# Altium footprint library Supernova Inductors.PcbLib: 56 footprints (part 2 of 4)
Each footprint in its own frame and in the unit in brackets; x right, y up, seen from the top. Pads: shape width x height; smd on the part's side, far side on the other; paste and mask are expansions set on the pad; w line width, h text height; cw(c..) or ccw(c..) is an arc to the next point about the centre after c.
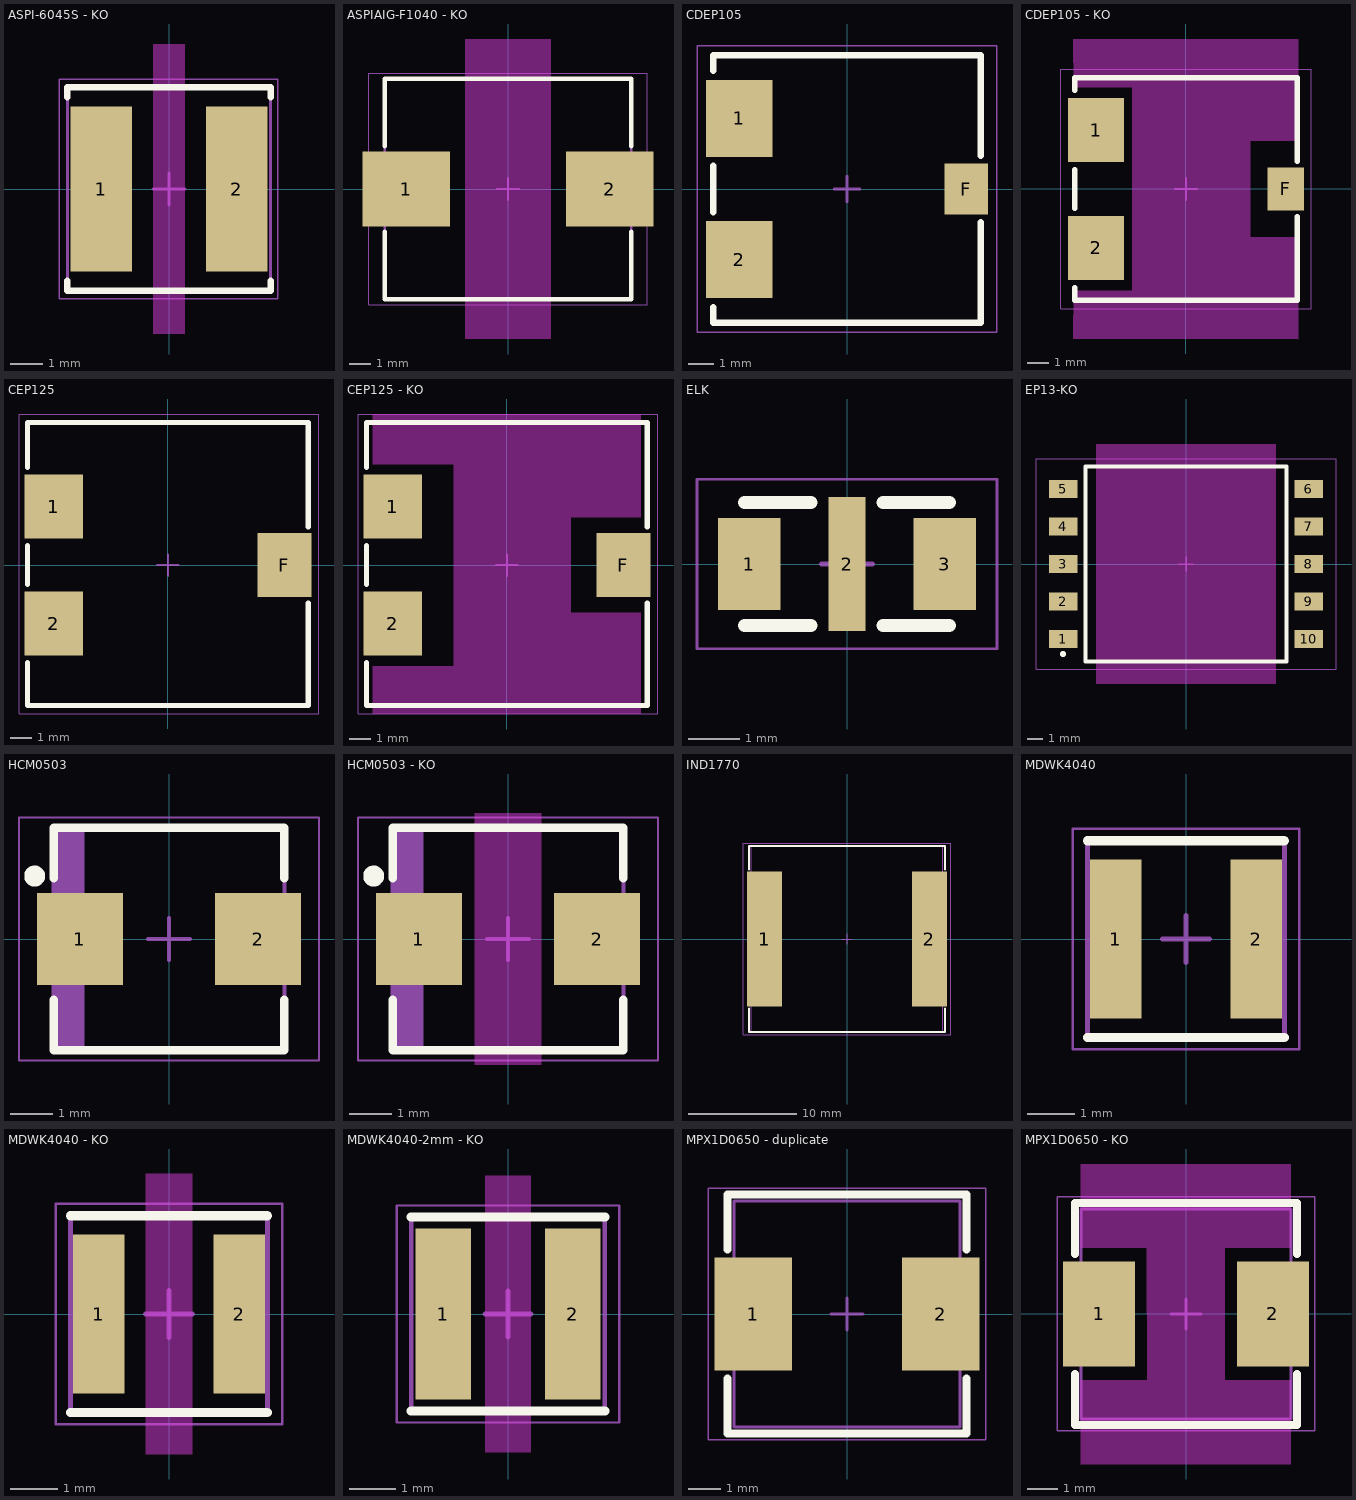
[diagram p1: the footprints below, top view; thin cyan lines are the x and y axes]

## ASPI-6045S - KO [mm] "Precision Wire Wound Inductor, 2-Leads, Body 6.00x6.00mm, IPC Medium Density"
height 4.5
pads (2):
  rect 1.9x5.1 smd paste-0.2: 1(-2.1,0) 2(2.1,0)
Top Overlay:
  lines w0.2: -3.15,-2.85 -3.15,-3.15 3.15,-3.15 3.15,-2.85 ; -3.15,2.85 -3.15,3.15 3.15,3.15 3.15,2.85
Keep-Out Layer:
  rectangle: -0.5,-4.5 0.5,4.5
Top 3D Body (Mech13):
  lines w0.1: -3.15,-3.15 -3.15,3.15 3.15,3.15 3.15,-3.15 -3.15,-3.15
Top Courtyard:
  lines w0.05: -3.4,-3.4 -3.4,3.4 3.375,3.4 3.375,-3.4 -3.4,-3.4
  lines w0.1: -0.5,0 0.5,0 ; 0,-0.5 0,0.5
3D body "vls6045af.step": height 4.49, standoff -0.01, extent -3,-3 3,3

## ASPIAIG-F1040 - KO [mm] "Molded Inductor, 2-Leads, Body 11.00x10.00mm, IPC Medium Density"
height 4
pads (2):
  rect 4.1x3.5 smd: 1(-4.75,0) 2(4.75,0)
Top Overlay:
  lines w0.2: -5.75,-2 -5.75,-5.15 5.75,-5.15 5.75,-2 ; -5.75,2 -5.75,5.15 5.75,5.15 5.75,2
Keep-Out Layer:
  rectangle: -2,-7 2,7
Top 3D Body (Mech13):
  lines w0.1: -5.75,-5.15 5.75,-5.15 5.75,5.15 -5.75,5.15 -5.75,-5.15
Top Courtyard:
  lines w0.05: -6.5,-5.4 6.5,-5.4 6.5,5.4 -6.5,5.4 -6.5,-5.4
  lines w0.1: -0.5,0 0.5,0 ; 0,-0.5 0,0.5
3D body: height 4, standoff 0, extent -5.75,-5.15 5.75,5.15

## CDEP105 [mm]
pads (3):
  rect 2.6x3 smd paste-0.2: 1(-4.2,2.75) 2(-4.2,-2.75)
  rect 1.7x2 smd paste-0.1: F(4.65,0)
Top Overlay:
  lines w0.254: -5.2,-4.6 -5.2,-5.2 5.2,-5.2 5.2,-1.3 ; -5.2,-0.9 -5.2,0.9 ; -5.2,4.6 -5.2,5.2 5.2,5.2 5.2,1.3
Top Courtyard:
  lines w0.05: -5.842,-5.588 -5.842,5.588 5.842,5.588 5.842,-5.588 -5.842,-5.588
  lines w0.1: -0.5,0 0.5,0 ; 0,-0.5 0,0.5
3D body: height 1.6, standoff 0, extent -5,1.5 -2.9,4.1
3D body: height 1.8, standoff 0, extent -5,-5 -2.9,-4.1
3D body: height 1.8, standoff 0, extent -5,4.1 -2.9,5
3D body: height 1.8, standoff 0, extent -2.9,-5 2.9,5
3D body: height 1.6, standoff 0, extent -5,-4.1 -2.9,-1.5
3D body: height 1.8, standoff 0, extent -5,-1.5 -2.9,1.5
3D body: height 1.6, standoff 0, extent 2.9,-0.7 5,0.7
3D body: height 1.8, standoff 0, extent 2.9,0.7 5,5
3D body: height 1.8, standoff 0, extent 2.9,-5 5,-0.7
3D body: height 5.6, standoff 4.2, extent -2.9,-5 4.5,5
3D body: height 4.2, standoff 1.8, extent -3.269,-3.892 4.5,3.892
3D body: height 4.2, standoff 0, extent -2.9,4.1 4.5,5
3D body: height 4.2, standoff 0, extent -2.9,-5 4.5,-4.1

## CDEP105 - KO [mm]
pads (3):
  rect 2.6x3 smd paste-0.2: 1(-4.2,2.75) 2(-4.2,-2.75)
  rect 1.7x2 smd paste-0.1: F(4.65,0)
Top Overlay:
  lines w0.254: -5.2,-4.6 -5.2,-5.2 5.2,-5.2 5.2,-1.3 ; -5.2,-0.9 -5.2,0.9 ; -5.2,4.6 -5.2,5.2 5.2,5.2 5.2,1.3
Keep-Out Layer:
  region: -5.25,7 -5.25,4.75 -2.5,4.75 -2.5,-4.75 -5.25,-4.75 -5.25,-7 5.25,-7 5.25,-2.25 3,-2.25 3,2.25 5.25,2.25 5.25,7
Top Courtyard:
  lines w0.05: -5.842,-5.588 -5.842,5.588 5.842,5.588 5.842,-5.588 -5.842,-5.588
  lines w0.1: -0.5,0 0.5,0 ; 0,-0.5 0,0.5
3D body: height 1.6, standoff 0, extent -5,1.5 -2.9,4.1
3D body: height 1.8, standoff 0, extent -5,-5 -2.9,-4.1
3D body: height 1.8, standoff 0, extent -5,4.1 -2.9,5
3D body: height 1.8, standoff 0, extent -2.9,-5 2.9,5
3D body: height 1.6, standoff 0, extent -5,-4.1 -2.9,-1.5
3D body: height 1.8, standoff 0, extent -5,-1.5 -2.9,1.5
3D body: height 1.6, standoff 0, extent 2.9,-0.7 5,0.7
3D body: height 1.8, standoff 0, extent 2.9,0.7 5,5
3D body: height 1.8, standoff 0, extent 2.9,-5 5,-0.7
3D body: height 5.6, standoff 4.2, extent -2.9,-5 4.5,5
3D body: height 4.2, standoff 1.8, extent -3.269,-3.892 4.5,3.892
3D body: height 4.2, standoff 0, extent -2.9,4.1 4.5,5
3D body: height 4.2, standoff 0, extent -2.9,-5 4.5,-4.1

## CEP125 [mm]
pads (3):
  rect 2.75x3 smd paste-0.2: 1(-5.375,2.75) 2(-5.375,-2.75)
  rect 2.55x3 smd paste-0.2: F(5.475,0)
Top Overlay:
  lines w0.254: -6.6,-4.6 -6.6,-6.6 6.6,-6.6 6.6,-1.8 ; -6.6,-0.9 -6.6,0.9 ; -6.6,4.6 -6.6,6.7 6.6,6.7 6.6,1.8
Top Courtyard:
  lines w0.05: -7,-7 7.1,-7 7.1,7.1 -7,7.1 -7,-7
  lines w0.1: -0.5,0 0.5,0 ; 0,-0.5 0,0.5
3D body: height 4.2, standoff 0, extent -4.2,-6.3 4.7,-5.4
3D body: height 4.2, standoff 0, extent -4.2,5.4 4.7,6.3
3D body: height 4.2, standoff 1.8, extent -3.9,-4.5 5.1,4.5
3D body: height 5.6, standoff 4.2, extent -4.2,-6.3 4.7,6.3
3D body: height 1.8, standoff 0, extent 2.9,-6.3 6.3,-1.2
3D body: height 1.8, standoff 0, extent 2.9,1.2 6.3,6.3
3D body: height 1.6, standoff 0, extent 4.7,-1.2 6.3,1.2
3D body: height 1.8, standoff 0, extent -6.3,-1.5 -2.9,1.5
3D body: height 1.6, standoff 0, extent -6.3,-4.1 -4.2,-1.5
3D body: height 1.8, standoff 0, extent -4.2,-6.3 4.7,6.3
3D body: height 1.8, standoff 0, extent -6.3,4.1 -2.9,6.3
3D body: height 1.8, standoff 0, extent -6.3,-6.3 -2.9,-4.1
3D body: height 1.6, standoff 0, extent -6.3,1.5 -4.2,4.1

## CEP125 - KO [mm]
pads (3):
  rect 2.75x3 smd paste-0.2: 1(-5.375,2.75) 2(-5.375,-2.75)
  rect 2.55x3 smd paste-0.2: F(5.475,0)
Top Overlay:
  lines w0.254: -6.6,-4.6 -6.6,-6.6 6.6,-6.6 6.6,-1.8 ; -6.6,-0.9 -6.6,0.9 ; -6.6,4.6 -6.6,6.7 6.6,6.7 6.6,1.8
Keep-Out Layer:
  region: -6.3,7.1 -6.3,4.75 -2.5,4.75 -2.5,-4.75 -6.3,-4.75 -6.3,-7 6.3,-7 6.3,-2.25 3,-2.25 3,2.25 6.3,2.25 6.3,7.1
Top Courtyard:
  lines w0.05: -7,-7 -7,7.1 7.1,7.1 7.1,-7 -7,-7
  lines w0.1: -0.5,0 0.5,0 ; 0,-0.5 0,0.5
3D body: height 1.6, standoff 0, extent -6.3,1.5 -4.2,4.1
3D body: height 1.8, standoff 0, extent -6.3,-6.3 -2.9,-4.1
3D body: height 1.8, standoff 0, extent -6.3,4.1 -2.9,6.3
3D body: height 1.8, standoff 0, extent -4.2,-6.3 4.7,6.3
3D body: height 1.6, standoff 0, extent -6.3,-4.1 -4.2,-1.5
3D body: height 1.8, standoff 0, extent -6.3,-1.5 -2.9,1.5
3D body: height 1.6, standoff 0, extent 4.7,-1.2 6.3,1.2
3D body: height 1.8, standoff 0, extent 2.9,1.2 6.3,6.3
3D body: height 1.8, standoff 0, extent 2.9,-6.3 6.3,-1.2
3D body: height 5.6, standoff 4.2, extent -4.2,-6.3 4.7,6.3
3D body: height 4.2, standoff 1.8, extent -3.9,-4.5 5.1,4.5
3D body: height 4.2, standoff 0, extent -4.2,5.4 4.7,6.3
3D body: height 4.2, standoff 0, extent -4.2,-6.3 4.7,-5.4

## ELK [mm]
pads (3):
  rect 1.219x1.8 smd: 1(-1.905,0) 3(1.905,0)
  rect 0.711x2.6 smd: 2(0,0)
Top Overlay:
  lines w0.254: -2,-1.2 -0.7,-1.2 ; -2,1.2 -0.7,1.2 ; 0.7,-1.2 2,-1.2 ; 0.7,1.2 2,1.2
Top Courtyard:
  lines w0.05: -2.921,-1.651 2.921,-1.651 2.921,1.651 -2.921,1.651 -2.921,-1.651
  lines w0.1: -0.5,0 0.5,0 ; 0,-0.5 0,0.5
3D body: height 2.2, standoff 0, extent -1.6,-0.9 1.6,0.9

## EP13-KO [mm]
pads (10):
  rect 1.88x1.17 smd paste-0.1: 1(-8.18,-5) 2(-8.18,-2.5) 3(-8.18,0) 4(-8.18,2.5) 5(-8.18,5) 6(8.18,5) 7(8.18,2.5) 8(8.18,0) 9(8.18,-2.5) 10(8.18,-5)
Top Overlay:
  circle w0.203: c-8.2,-6 r0.102
  lines w0.254: -6.7,-6.5 6.7,-6.5 6.7,6.5 -6.7,6.5 -6.7,-6.5
Keep-Out Layer:
  rectangle: -6,-8 6,8
Top Courtyard:
  lines w0.05: -10,-7 -10,7 10,7 10,-7 -10,-7
  lines w0.1: -0.5,0 0.5,0 ; 0,-0.5 0,0.5
3D body "750315125_Download_STP_070-5465_rev1.STEP": height 11.96, standoff 0, extent -8.58,-6.55 8.58,6.55

## HCM0503 [mm] "Precision Wire Wound Inductor, 2-Leads, Body 5.15x5.10mm, IPC Medium Density"
height 3
pads (2):
  rect 2.05x2.2 smd: 1(-2.125,0) 2(2.125,0)
Top Overlay:
  circle w0.25: c-3.2,1.5 r0.125
  lines w0.2: -2.75,-1.45 -2.75,-2.65 2.75,-2.65 2.75,-1.45 ; -2.75,1.45 -2.75,2.65 2.75,2.65 2.75,1.45
Top 3D Body (Mech13):
  rectangle: -2.75,-2.65 -2.01,2.65
  lines w0.1: -2.75,-2.65 2.75,-2.65 2.75,2.65 -2.75,2.65 -2.75,-2.65
Top Courtyard:
  lines w0.05: -3.575,-2.9 3.575,-2.9 3.575,2.9 -3.575,2.9 -3.575,-2.9
  lines w0.1: -0.5,0 0.5,0 ; 0,-0.5 0,0.5
3D body: height 3, standoff 0, extent -2.75,-2.65 2.75,2.65

## HCM0503 - KO [mm] "Precision Wire Wound Inductor, 2-Leads, Body 5.15x5.10mm, IPC Medium Density"
height 3
pads (2):
  rect 2.05x2.2 smd: 1(-2.125,0) 2(2.125,0)
Top Overlay:
  circle w0.25: c-3.2,1.5 r0.125
  lines w0.2: -2.75,-1.45 -2.75,-2.65 2.75,-2.65 2.75,-1.45 ; -2.75,1.45 -2.75,2.65 2.75,2.65 2.75,1.45
Keep-Out Layer:
  rectangle: -0.8,-3 0.8,3
Top 3D Body (Mech13):
  rectangle: -2.75,-2.65 -2.01,2.65
  lines w0.1: -2.75,-2.65 2.75,-2.65 2.75,2.65 -2.75,2.65 -2.75,-2.65
Top Courtyard:
  lines w0.05: -3.575,-2.9 3.575,-2.9 3.575,2.9 -3.575,2.9 -3.575,-2.9
  lines w0.1: -0.5,0 0.5,0 ; 0,-0.5 0,0.5
3D body: height 3, standoff 0, extent -2.75,-2.65 2.75,2.65

## IND1770 [mm] "Molded Inductor, 2-Leads, Body 17.45x16.95mm, IPC Medium Density"
height 7
pads (2):
  rect 3.25x12.5 smd: 1(-7.625,0) 2(7.625,0)
Top Overlay:
  lines w0.2: -9.05,-6.45 -9.05,-8.6 9.05,-8.6 9.05,-6.45 ; -9.05,6.45 -9.05,8.6 9.05,8.6 9.05,6.45
Top 3D Body (Mech13):
  lines w0.1: -8.85,-8.6 -8.85,8.6 8.85,8.6 8.85,-8.6 -8.85,-8.6
Top Courtyard:
  lines w0.05: -9.6,-8.85 -9.6,8.85 9.6,8.85 9.6,-8.85 -9.6,-8.85
  lines w0.1: -0.5,0 0.5,0 ; 0,-0.5 0,0.5
3D body "AMDLA1707Q-100MT--3DModel-STEP-368357.STEP": height 6.75, standoff -0.02, extent -8.97,-8.45 8.97,8.45

## MDWK4040 [mm] "Precision Wire Wound Inductor, 2-Leads, Body 4.00x4.00mm, IPC Medium Density"
height 3
pads (2):
  rect 1.1x3.4 smd paste-0.15: 1(-1.5,0) 2(1.5,0)
Top Overlay:
  lines w0.2: -2.1,-2.1 2.1,-2.1 ; -2.1,2.1 2.1,2.1
Top 3D Body (Mech13):
  lines w0.1: -2.1,-2.1 -2.1,2.1 2.1,2.1 2.1,-2.1 -2.1,-2.1
Top Courtyard:
  lines w0.05: -2.413,-2.35 -2.413,2.35 2.413,2.35 2.413,-2.35 -2.413,-2.35
  lines w0.1: -0.5,0 0.5,0 ; 0,-0.5 0,0.5
3D body "ASPI-4030S.STEP": height 3, standoff 0, extent -2,-2 2,2

## MDWK4040 - KO [mm] "Precision Wire Wound Inductor, 2-Leads, Body 4.00x4.00mm, IPC Medium Density"
height 3
pads (2):
  rect 1.1x3.4 smd paste-0.15: 1(-1.5,0) 2(1.5,0)
Top Overlay:
  lines w0.2: -2.1,-2.1 2.1,-2.1 ; -2.1,2.1 2.1,2.1
Keep-Out Layer:
  rectangle: -0.5,-3 0.5,3
Top 3D Body (Mech13):
  lines w0.1: -2.1,-2.1 2.1,-2.1 2.1,2.1 -2.1,2.1 -2.1,-2.1
Top Courtyard:
  lines w0.05: -2.413,-2.35 2.413,-2.35 2.413,2.35 -2.413,2.35 -2.413,-2.35
  lines w0.1: -0.5,0 0.5,0 ; 0,-0.5 0,0.5
3D body "ASPI-4030S.STEP": height 3, standoff 0, extent -2,-2 2,2

## MDWK4040-2mm - KO [mm] "Precision Wire Wound Inductor, 2-Leads, Body 4.00x4.00mm, IPC Medium Density"
height 2
pads (2):
  rect 1.2x3.7 smd paste-0.15: 1(-1.4,0) 2(1.4,0)
Top Overlay:
  lines w0.2: -2.1,-2.1 2.1,-2.1 ; -2.1,2.1 2.1,2.1
Keep-Out Layer:
  rectangle: -0.5,-3 0.5,3
Top 3D Body (Mech13):
  lines w0.1: -2.1,-2.1 2.1,-2.1 2.1,2.1 -2.1,2.1 -2.1,-2.1
Top Courtyard:
  lines w0.05: -2.413,-2.35 2.413,-2.35 2.413,2.35 -2.413,2.35 -2.413,-2.35
  lines w0.1: -0.5,0 0.5,0 ; 0,-0.5 0,0.5
3D body: height 2, standoff 0, extent -2,-2 2,2

## MPX1D0650 - duplicate [mm] "Precision Wire Wound Inductor, 2-Leads, Body 4.00x4.00mm, IPC Medium Density"
height 3
pads (2):
  rect 2.4x3.5 smd paste-0.2: 1(-2.9,0) 2(2.9,0)
Top Overlay:
  lines w0.254: -3.7,-2 -3.7,-3.7 3.7,-3.7 3.7,-2 ; -3.7,2 -3.7,3.7 3.7,3.7 3.7,2
Top 3D Body (Mech13):
  lines w0.1: -3.5,-3.5 -3.5,3.5 3.5,3.5 3.5,-3.5 -3.5,-3.5
Top Courtyard:
  lines w0.05: -4.3,-3.9 -4.3,3.9 4.3,3.9 4.3,-3.9 -4.3,-3.9
  lines w0.1: -0.5,0 0.5,0 ; 0,-0.5 0,0.5
3D body "MPX1D0630L150.step": height 3, standoff -0.06, extent -3.625,-3.35 3.625,3.35

## MPX1D0650 - KO [mm] "Precision Wire Wound Inductor, 2-Leads, Body 4.00x4.00mm, IPC Medium Density"
height 3
pads (2):
  rect 2.4x3.5 smd paste-0.2: 1(-2.9,0) 2(2.9,0)
Top Overlay:
  lines w0.254: -3.7,-2 -3.7,-3.7 3.7,-3.7 3.7,-2 ; -3.7,2 -3.7,3.7 3.7,3.7 3.7,2
Keep-Out Layer:
  region: -3.5,5 -3.5,2.2 -1.3,2.2 -1.3,-2.2 -3.5,-2.2 -3.5,-5 3.5,-5 3.5,-2.2 1.3,-2.2 1.3,2.2 3.5,2.2 3.5,5
Top 3D Body (Mech13):
  lines w0.1: -3.5,-3.5 3.5,-3.5 3.5,3.5 -3.5,3.5 -3.5,-3.5
Top Courtyard:
  lines w0.05: -4.3,-3.9 4.3,-3.9 4.3,3.9 -4.3,3.9 -4.3,-3.9
  lines w0.1: -0.5,0 0.5,0 ; 0,-0.5 0,0.5
3D body: height 5, standoff 0, extent -3.5,-3.5 3.5,3.5